# Altium schematic symbol library Schlib1.SchLib: 1 symbol
Pins are listed as number, name and electrical type; pins without a type are passive.

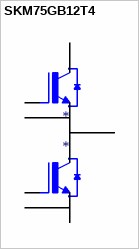
[diagram p0: symbol SKM75GB12T4]

## SKM75GB12T4
designator *
footprint SEMIKRON SKM75GB12T4
pins: 1 E1, 2 C, 2 GND, 3 E, 3 E, 3 Vcc, 4 G1, 5 E1, 6 G2, 7 E2